# Altium footprint library Miscellaneous Connectors.PcbLib: 44 footprints (part 1 of 3)
Each footprint in its own frame and in the unit in brackets; x right, y up, seen from the top. Pads: shape width x height; smd on the part's side, far side on the other; paste and mask are expansions set on the pad; w line width, h text height; cw(c..) or ccw(c..) is an arc to the next point about the centre after c.
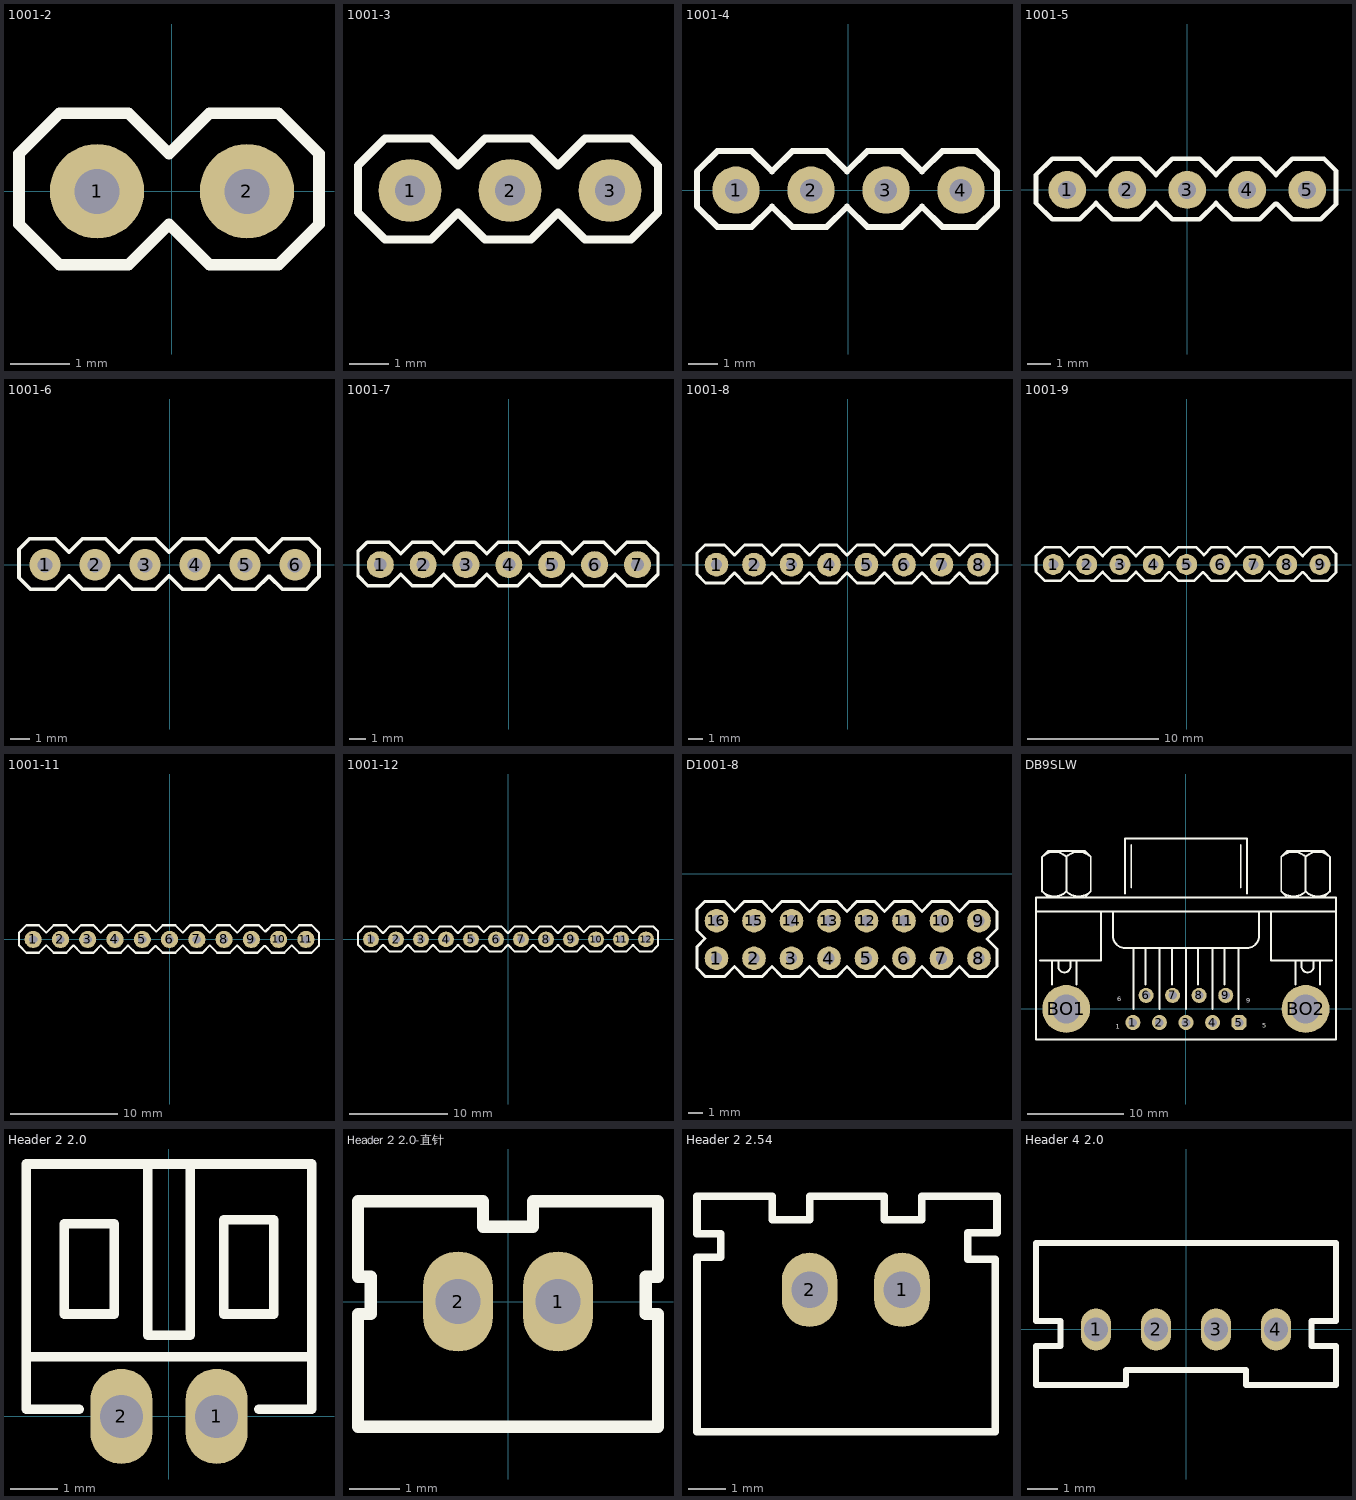
[diagram p0: the footprints below, top view; thin cyan lines are the x and y axes]

## 1001-2 [mm]
pads (2):
  round 1.6 hole 0.762: 1(-1.27,0) 2(1.27,0)
Top Overlay:
  lines w0.2: 1.06,0 1.27,0 ; -2.591,-0.559 -2.591,0.635 -1.905,1.321 -0.737,1.321 -0.051,0.635 0.635,1.321 1.803,1.321 2.489,0.635 2.489,-0.559 1.803,-1.245 0.635,-1.245 -0.051,-0.559 -0.737,-1.245 -1.905,-1.245 -2.591,-0.559
3D body "1001-2.STEP": height 8.64, standoff -2.9, extent -2.54,-1.27 2.54,1.27

## 1001-3 [mm]
pads (3):
  round 1.6 hole 0.762: 1(4.17,15.36) 2(6.71,15.36) 3(9.25,15.36)
Top Overlay:
  lines w0.2: 2.849,14.801 3.535,14.115 4.703,14.115 5.389,14.801 6.075,14.115 7.243,14.115 7.929,14.801 8.615,14.115 9.783,14.115 10.469,14.801 10.469,15.995 9.783,16.681 8.615,16.681 7.929,15.995 7.243,16.681 6.075,16.681 5.389,15.995 4.703,16.681 3.535,16.681 2.849,15.995 2.849,14.801
3D body "1001-3.STEP": height 8.54, standoff -3, extent 2.9,14.09 10.52,16.63

## 1001-4 [mm]
pads (4):
  round 1.6 hole 0.762: 1(-3.81,0) 2(-1.27,0) 3(1.27,0) 4(3.81,0)
Top Overlay:
  lines w0.2: 5.002,-0.586 4.343,-1.245 3.175,-1.245 2.489,-0.559 1.803,-1.245 0.635,-1.245 -0.051,-0.559 -0.737,-1.245 -1.905,-1.245 -2.591,-0.559 -3.277,-1.245 -4.445,-1.245 -5.131,-0.559 -5.131,0.635 -4.445,1.321 -3.277,1.321 -2.591,0.635 -1.905,1.321 -0.737,1.321 -0.051,0.635 0.635,1.321 1.803,1.321 2.489,0.635 3.175,1.321 4.343,1.321 5.029,0.635 5.029,-0.559
3D body "1001-4.STEP": height 8.64, standoff -2.9, extent -5.08,-1.27 5.08,1.27

## 1001-5 [mm]
pads (5):
  round 1.6 hole 0.762: 1(-5.08,0) 2(-2.54,0) 3(0,0) 4(2.54,0) 5(5.08,0)
Top Overlay:
  lines w0.2: -6.401,-0.559 -6.401,0.635 -5.715,1.321 -4.547,1.321 -3.861,0.635 -3.175,1.321 -2.007,1.321 -1.321,0.635 -0.635,1.321 0.533,1.321 1.219,0.635 1.905,1.321 3.073,1.321 3.759,0.635 4.445,1.321 5.791,1.321 6.299,0.813 6.299,-0.602 5.657,-1.245 5.563,-1.245 4.445,-1.245 3.786,-0.586 3.732,-0.586 3.073,-1.245 1.905,-1.245 1.219,-0.559 0.533,-1.245 -0.635,-1.245 -1.321,-0.559 -2.007,-1.245 -3.175,-1.245 -3.861,-0.559 -4.547,-1.245 -5.715,-1.245 -6.401,-0.559
3D body "1001-5.STEP": height 8.64, standoff -2.9, extent -6.31,-1.27 6.39,1.27

## 1001-6 [mm]
pads (6):
  round 1.6 hole 0.762: 1(-6.35,0) 2(-3.81,0) 3(-1.27,0) 4(1.27,0) 5(3.81,0) 6(6.35,0)
Top Overlay:
  lines w0.2: -7.671,-0.66 -7.087,-1.245 -5.817,-1.245 -5.131,-0.559 -4.445,-1.245 -3.277,-1.245 -2.591,-0.559 -1.905,-1.245 -0.737,-1.245 -0.051,-0.559 0.635,-1.245 1.803,-1.245 2.489,-0.559 3.175,-1.245 4.343,-1.245 5.002,-0.586 5.056,-0.586 5.715,-1.245 6.833,-1.245 6.927,-1.245 7.569,-0.602 7.569,0.813 7.061,1.321 5.715,1.321 5.029,0.635 4.343,1.321 3.175,1.321 2.489,0.635 1.803,1.321 0.635,1.321 -0.051,0.635 -0.737,1.321 -1.905,1.321 -2.591,0.635 -3.277,1.321 -4.445,1.321 -5.131,0.635 -5.817,1.321 -7.137,1.321 -7.671,0.787 -7.671,-0.66
3D body "1001-6.STEP": height 8.64, standoff -2.9, extent -7.62,-1.27 7.62,1.27

## 1001-7 [mm]
pads (7):
  round 1.6 hole 0.762: 1(-7.62,0) 2(-5.08,0) 3(-2.54,0) 4(0,0) 5(2.54,0) 6(5.08,0) 7(7.62,0)
Top Overlay:
  lines w0.2: -8.941,-0.66 -8.941,0.787 -8.407,1.321 -7.087,1.321 -6.401,0.635 -5.715,1.321 -4.547,1.321 -3.861,0.635 -3.175,1.321 -2.007,1.321 -1.321,0.635 -0.635,1.321 0.533,1.321 1.219,0.635 1.905,1.321 3.073,1.321 3.759,0.635 4.445,1.321 5.613,1.321 6.299,0.635 6.985,1.321 8.153,1.321 8.839,0.635 8.839,-0.559 8.153,-1.245 6.985,-1.245 6.299,-0.559 5.613,-1.245 4.445,-1.245 3.759,-0.559 3.073,-1.245 1.905,-1.245 1.219,-0.559 0.533,-1.245 -0.635,-1.245 -1.321,-0.559 -2.007,-1.245 -3.175,-1.245 -3.861,-0.559 -4.547,-1.245 -5.715,-1.245 -6.401,-0.559 -7.087,-1.245 -8.357,-1.245 -8.941,-0.66
3D body "1001-7.STEP": height 8.54, standoff -3, extent -8.89,-1.27 8.89,1.27

## 1001-8 [mm]
pads (8):
  round 1.6 hole 0.762: 1(-8.89,0) 2(-6.35,0) 3(-3.81,0) 4(-1.27,0) 5(1.27,0) 6(3.81,0) 7(6.35,0) 8(8.89,0)
Top Overlay:
  lines w0.2: -10.211,-0.66 -9.627,-1.245 -8.357,-1.245 -7.671,-0.559 -6.985,-1.245 -5.817,-1.245 -5.131,-0.559 -4.445,-1.245 -3.277,-1.245 -2.591,-0.559 -1.905,-1.245 -0.737,-1.245 -0.051,-0.559 0.635,-1.245 1.803,-1.245 2.489,-0.559 3.175,-1.245 4.343,-1.245 5.029,-0.559 5.715,-1.245 6.883,-1.245 7.569,-0.559 8.255,-1.245 9.423,-1.245 10.109,-0.559 10.109,0.635 9.423,1.321 8.255,1.321 7.569,0.635 6.883,1.321 5.715,1.321 5.029,0.635 4.343,1.321 3.175,1.321 2.489,0.635 1.803,1.321 0.635,1.321 -0.051,0.635 -0.737,1.321 -1.905,1.321 -2.591,0.635 -3.277,1.321 -4.445,1.321 -5.131,0.635 -5.817,1.321 -6.985,1.321 -7.671,0.635 -8.357,1.321 -9.677,1.321 -10.211,0.787 -10.211,-0.66
3D body "1001-8.STEP": height 8.54, standoff -3, extent -10.16,-1.27 10.16,1.27

## 1001-9 [mm]
pads (9):
  round 1.6 hole 0.762: 1(-10.16,0) 2(-7.62,0) 3(-5.08,0) 4(-2.54,0) 5(0,0) 6(2.54,0) 7(5.08,0) 8(7.62,0) 9(10.16,0)
Top Overlay:
  lines w0.2: -11.481,-0.559 -10.795,-1.245 -9.627,-1.245 -8.941,-0.559 -8.255,-1.245 -7.087,-1.245 -6.401,-0.559 -5.715,-1.245 -4.547,-1.245 -3.861,-0.559 -3.175,-1.245 -2.007,-1.245 -1.348,-0.586 -1.294,-0.586 -0.635,-1.245 0.483,-1.245 0.577,-1.245 1.212,-0.61 1.27,-0.61 1.905,-1.245 3.073,-1.245 3.759,-0.559 4.445,-1.245 5.613,-1.245 6.299,-0.559 6.985,-1.245 8.153,-1.245 8.812,-0.586 8.866,-0.586 9.525,-1.245 10.643,-1.245 10.737,-1.245 11.379,-0.602 11.379,0.813 10.871,1.321 9.525,1.321 8.839,0.635 8.153,1.321 6.985,1.321 6.299,0.635 5.613,1.321 4.445,1.321 3.759,0.635 3.073,1.321 1.905,1.321 1.308,0.724 0.711,1.321 -0.635,1.321 -1.321,0.635 -2.007,1.321 -3.175,1.321 -3.861,0.635 -4.547,1.321 -5.715,1.321 -6.401,0.635 -7.087,1.321 -8.255,1.321 -8.941,0.635 -9.627,1.321 -10.795,1.321 -11.481,0.635 -11.481,-0.559
3D body "1001-5.STEP": height 8.64, standoff -2.9, extent -11.39,-1.27 1.31,1.27
3D body "1001-4.STEP": height 8.64, standoff -2.9, extent 1.31,-1.27 11.47,1.27

## 1001-11 [mm]
pads (11):
  round 1.6 hole 0.762: 1(-12.7,0) 2(-10.16,0) 3(-7.62,0) 4(-5.08,0) 5(-2.54,0) 6(0,0) 7(2.54,0) 8(5.08,0) 9(7.62,0) 10(10.16,0) 11(12.7,0)
Top Overlay:
  lines w0.2: 8.926,0.726 8.331,1.321 6.985,1.321 6.299,0.635 5.613,1.321 4.445,1.321 3.759,0.635 3.073,1.321 1.905,1.321 1.219,0.635 0.533,1.321 -0.635,1.321 -1.232,0.724 -1.829,1.321 -3.175,1.321 -3.861,0.635 -4.547,1.321 -5.715,1.321 -6.401,0.635 -7.087,1.321 -8.255,1.321 -8.941,0.635 -9.627,1.321 -10.795,1.321 -11.481,0.635 -12.167,1.321 -13.335,1.321 -14.021,0.635 -14.021,-0.559 -13.335,-1.245 -12.167,-1.245 -11.481,-0.559 -10.795,-1.245 -9.627,-1.245 -8.941,-0.559 -8.255,-1.245 -7.087,-1.245 -6.401,-0.559 -5.715,-1.245 -4.547,-1.245 -3.888,-0.586 -3.834,-0.586 -3.175,-1.245 -2.057,-1.245 -1.963,-1.245 -1.328,-0.61 -1.27,-0.61 -0.635,-1.245 0.533,-1.245 1.219,-0.559 1.905,-1.245 3.073,-1.245 3.759,-0.559 4.445,-1.245 5.613,-1.245 6.272,-0.586 6.326,-0.586 6.985,-1.245 8.103,-1.245 8.197,-1.245 8.839,-0.602 8.882,-0.602 9.525,-1.245 10.693,-1.245 11.379,-0.559 12.065,-1.245 13.233,-1.245 13.892,-0.586 ; 8.93,0.73 9.521,1.321 10.693,1.321 11.379,0.635 12.065,1.321 13.233,1.321 13.919,0.635 13.919,-0.559
3D body "1001-7.STEP": height 8.54, standoff -3, extent -13.97,-1.27 3.81,1.27
3D body "1001-4.STEP": height 8.64, standoff -2.9, extent 3.81,-1.27 13.97,1.27

## 1001-12 [mm]
pads (12):
  round 1.6 hole 0.762: 1(-13.97,0) 2(-11.43,0) 3(-8.89,0) 4(-6.35,0) 5(-3.81,0) 6(-1.27,0) 7(1.27,0) 8(3.81,0) 9(6.35,0) 10(8.89,0) 11(11.43,0) 12(13.97,0)
Top Overlay:
  lines w0.2: 7.656,0.726 7.061,1.321 5.715,1.321 5.029,0.635 4.343,1.321 3.175,1.321 2.489,0.635 1.803,1.321 0.635,1.321 -0.051,0.635 -0.737,1.321 -1.905,1.321 -2.502,0.724 -3.099,1.321 -4.445,1.321 -5.131,0.635 -5.817,1.321 -6.985,1.321 -7.671,0.635 -8.357,1.321 -9.525,1.321 -10.211,0.635 -10.897,1.321 -12.065,1.321 -12.751,0.635 -13.437,1.321 -14.605,1.321 -15.291,0.635 -15.291,-0.559 -14.605,-1.245 -13.437,-1.245 -12.751,-0.559 -12.065,-1.245 -10.897,-1.245 -10.211,-0.559 -9.525,-1.245 -8.357,-1.245 -7.671,-0.559 -6.985,-1.245 -5.817,-1.245 -5.158,-0.586 -5.104,-0.586 -4.445,-1.245 -3.327,-1.245 -3.233,-1.245 -2.598,-0.61 -2.54,-0.61 -1.905,-1.245 -0.737,-1.245 -0.051,-0.559 0.635,-1.245 1.803,-1.245 2.489,-0.559 3.175,-1.245 4.343,-1.245 5.002,-0.586 5.056,-0.586 5.715,-1.245 6.833,-1.245 6.927,-1.245 7.569,-0.602 7.612,-0.602 8.255,-1.245 9.423,-1.245 10.109,-0.559 10.795,-1.245 11.963,-1.245 12.622,-0.586 12.676,-0.586 13.335,-1.245 14.453,-1.245 14.547,-1.245 15.189,-0.602 15.189,0.813 14.681,1.321 13.335,1.321 12.649,0.635 11.963,1.321 10.795,1.321 10.109,0.635 9.423,1.321 8.251,1.321 7.66,0.73
3D body "1001-4.STEP": height 8.64, standoff -2.9, extent 5.08,-1.27 15.24,1.27
3D body "1001-8.STEP": height 8.64, standoff -2.9, extent -15.24,-1.27 5.08,1.27

## D1001-8 [mm]
pads (16):
  round 1.6 hole 0.762: 1(930.021,-5.715) 2(932.561,-5.715) 3(935.101,-5.715) 4(937.641,-5.715) 5(940.181,-5.715) 6(942.721,-5.715) 7(945.261,-5.715) 8(947.801,-5.715) 9(947.801,-3.175) 10(945.261,-3.175) 11(942.721,-3.175) 12(940.181,-3.175) 13(937.641,-3.175) 14(935.101,-3.175) 15(932.561,-3.175) 16(930.021,-3.175)
Top Overlay:
  lines w0.2: 928.7,-6.375 928.7,-4.928 929.246,-4.381 928.7,-3.835 928.7,-2.388 929.234,-1.854 930.554,-1.854 931.24,-2.54 931.926,-1.854 933.094,-1.854 933.78,-2.54 934.466,-1.854 935.634,-1.854 936.32,-2.54 937.006,-1.854 938.174,-1.854 938.86,-2.54 939.546,-1.854 940.714,-1.854 941.4,-2.54 942.086,-1.854 943.254,-1.854 943.94,-2.54 944.626,-1.854 945.794,-1.854 946.48,-2.54 947.166,-1.854 948.334,-1.854 949.02,-2.54 949.02,-3.734 948.347,-4.407 949.02,-5.08 949.02,-6.274 948.334,-6.96 947.166,-6.96 946.48,-6.274 945.794,-6.96 944.626,-6.96 943.94,-6.274 943.254,-6.96 942.086,-6.96 941.4,-6.274 940.714,-6.96 939.546,-6.96 938.86,-6.274 938.174,-6.96 937.006,-6.96 936.32,-6.274 935.634,-6.96 934.466,-6.96 933.78,-6.274 933.094,-6.96 931.926,-6.96 931.24,-6.274 930.554,-6.96 929.284,-6.96 928.7,-6.375
3D body "1001-8.STEP": height 8.54, standoff -3, extent 928.751,-6.985 949.071,-4.445
3D body "1001-8.STEP": height 8.54, standoff -3, extent 928.751,-4.445 949.071,-1.905

## DB9SLW [mil]
pads (11):
  round 62 hole 35: 1(-217.91,-55.83) 2(-108.75,-55.83) 3(0.42,-55.83) 4(109.58,-55.83) 6(-163.75,55.83) 7(-54.58,55.83) 8(54.58,55.83) 9(163.75,55.83)
  oct 62x62 hole 35: 5(218.75,-55.83)
  round 196.67 hole 118.33: BO1(-492.08,0) BO2(492.08,0)
Top Overlay:
  lines w8: -616.25,400 617.08,400 ; -599.58,200 -349.58,200 -349.58,400 ; -591.33,483.25 ccw(c-541.25,533.33) -491.16,483.25 ; -591.33,625.09 cw(c-541.25,575) -491.16,625.09 ; -566.25,458.33 -591.25,483.33 -591.25,625 -566.25,650 -416.25,650 -391.25,625 -391.25,483.33 -416.25,458.33 ; -549.58,100 -549.58,200 ; -524.58,200 -524.58,175 ccw(c-499.58,175) -474.58,175 -474.58,200 ; -491.33,483.25 ccw(c-441.25,533.33) -391.16,483.25 ; -491.33,625.09 cw(c-441.25,575) -391.16,625.09 ; -491.25,483.33 -491.25,625 ; -449.58,100 -449.58,200 ; -299.58,400 -299.58,300 ccw(c-249.58,300) -249.58,250 250.42,250 ccw(c250.42,300) 300.42,300 300.42,400 ; -249.58,475 -249.58,700 250.42,700 250.42,475 ; -224.58,500 -224.58,675 ; -216.25,0 -216.25,250 ; -166.25,100 -166.25,250 ; -107.91,0 -107.91,250 ; -57.91,100 -57.91,250 ; 0.42,0 0.42,250 ; 50.42,100 50.42,250 ; 108.75,0 108.75,250 ; 158.75,100 158.75,250 ; 217.08,0 217.08,250 ; 225.42,500 225.42,675 ; 350.42,400 350.42,200 600.42,200 ; 392,483.25 ccw(c442.08,533.33) 492.17,483.25 ; 392,625.09 cw(c442.08,575) 492.17,625.09 ; 417.08,458.33 392.08,483.33 392.08,625 417.08,650 567.08,650 592.08,625 592.08,483.33 567.08,458.33 ; 450.42,100 450.42,200 ; 475.42,200 475.42,175 ccw(c500.42,175) 525.42,175 525.42,200 ; 492,483.25 ccw(c542.08,533.33) 592.17,483.25 ; 492,625.09 cw(c542.08,575) 592.17,625.09 ; 492.08,483.33 492.08,625 ; 550.42,100 550.42,200 ; -616.25,-125 -616.25,458.33 617.08,458.33 617.08,-125 -616.25,-125
  text "9" at 247.75,26.17 h20
  text "5" at 314.75,-77.83 h20
  text "1" at -289.25,-80.83 h20
  text "6" at -281.25,31.17 h20
3D body "SW3dPS-9-PIN_DSUB-1.STEP": height 504.38, standoff -114.62, extent -605.74,-135.83 607.26,615.17

## Header 2 2.0 [mm]
pads (2):
  oval 1.3x2 hole 0.9: 1(1,0) 2(-1,0)
Top Overlay:
  lines w0.2: -2.95,1.252 3,1.252 ; -1.882,0.15 -3,0.15 -3,5.3 3,5.3 3,0.15 1.882,0.15 ; -2.2,2.15 -2.2,4.05 -1.15,4.05 -1.15,2.15 -2.2,2.15 ; -0.45,1.7 0.45,1.7 0.45,5.3 -0.45,5.3 -0.45,1.7 ; 1.15,2.15 1.15,4.13 2.2,4.13 2.2,2.15 1.15,2.15
3D body "XH2.0-2-弯针.STEP": height 4.85, standoff -0.97, extent -2.974,-0.321 3.026,6.329

## Header 2 2.0-直针 [mm]
pads (2):
  oval 1.4x2 hole 0.9: 1(1,0) 2(-1,0)
Top Overlay:
  lines w0.25: -3,-2.5 3,-2.5 3,-0.25 2.75,-0.25 2.75,0.5 3,0.5 3,2 0.5,2 0.5,1.5 -0.5,1.5 -0.5,2 -3,2 -3,0.5 -2.75,0.5 -2.75,-0.25 -3,-0.25 -3,-2.5
3D body "XH2.0-2-直针.STEP": height 6.2, standoff -2.4, extent -2.975,-2.883 3.025,1.817

## Header 2 2.54 [mm]
pads (2):
  oval 1.5x2 hole 0.991: 1(14.464,-4.21) 2(11.975,-4.21)
Top Overlay:
  lines w0.2: 8.94,-8.036 16.971,-8.036 ; 10.972,-2.321 11.98,-2.321 ; 11.98,-1.686 13.981,-1.686 ; 13.982,-2.32 14.99,-2.32 14.99,-1.686
  lines w0.203: 8.94,-8.036 8.94,-3.337 9.575,-3.337 9.575,-2.702 8.94,-2.702 8.94,-1.686 10.972,-1.686 10.972,-2.321 ; 11.98,-2.321 11.98,-1.686 ; 13.982,-2.32 13.982,-1.685 ; 14.99,-1.686 17.022,-1.686 17.022,-2.677 16.235,-2.677 16.235,-3.388 16.971,-3.388 16.971,-8.036
3D body "User Library-XH_Right.STEP": height 7, standoff -3.5, extent 9.01,-7.87 13.06,-1.87
3D body "User Library-XH_Left.STEP": height 7, standoff -3.5, extent 13.075,-7.87 17.125,-1.87

## Header 4 2.0 [mm]
pads (4):
  oval 1x1.4 hole 0.8: 1(-3,0) 2(-1,0) 3(1,0) 4(3,0)
Top Overlay:
  lines w0.2: -5,0.279 -5,2.877 5,2.877 5,0.279 4.187,0.279 ; -4.998,0.279 -4.185,0.279 -4.185,-0.559 -5,-0.559 -5,-1.848 -2,-1.848 -2,-1.348 2,-1.348 2,-1.848 5,-1.848 5,-0.559 4.185,-0.559 4.185,0.279
3D body "XH2.0-4.STEP": height 6.2, standoff -2.9, extent -5,-1.803 5,2.897